# EAGLE library part FTSH-105-01-L-DV-K-TR (library MDULib)
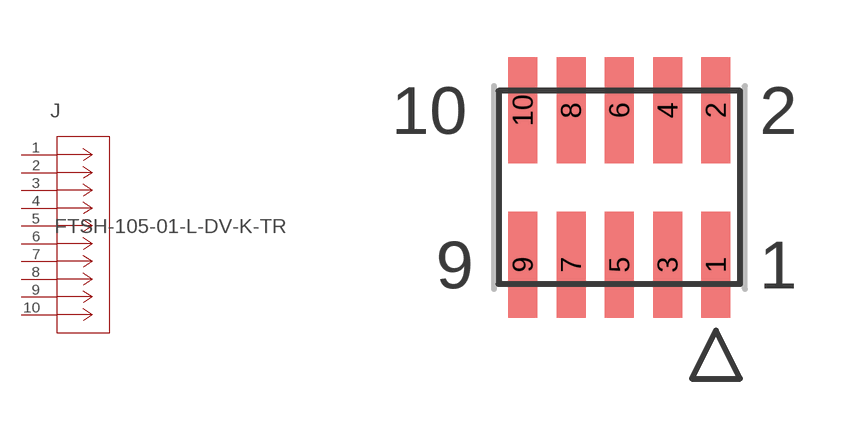
[diagram p0: symbol with the pads of CON10_2X5_DUK_FTSH; footprint CON10_2X5_DUK_FTSH]

Designator prefix J

## FTSH-105-01-L-DV-K-TR (CATEGORY: Connectors; COLOR: Black; CONNECTORTYPE: Header, Unshrouded; CONTACTFINISH: Gold; CONTACTFINISHTHICKNESS: 10µin (0.25µm); CONTACTMATINGLENGTH: 0.120" (3.05mm); CONTACTTYPE: Male Pin; COPYRIGHT: Copyright (C) 2015 Accelerated Designs. All rights reserved; DATASHEET: http://www.samtec.com/documents/webfiles/pdf/FTSH_SMT.pdf; DIGIKEYPARTNUMBER: FTSH-105-01-L-DV-K-TR-ND; FASTENINGTYPE: -; FEATURES: -; MANUFACTURER_PART_NUMBER: FTSH-105-01-L-DV-K-TR; MOUNTINGTYPE: Surface Mount; NUMBEROFPOSITIONS: 10; NUMBEROFPOSITIONSLOADED: All; NUMBEROFROWS: 2; PACKAGING: Tape &amp Reel (TR); PITCH: 0.050" (1.27mm); QUANTITY_AVAILABLE: 0; ROWSPACING: 0.050" (1.27mm); TERMINATION: Solder; VENDOR: Samtec Inc)  [CON10_2X5_DUK_FTSH]
1  1  pas
2  2  pas
3  3  pas
4  4  pas
5  5  pas
6  6  pas
7  7  pas
8  8  pas
9  9  pas
10  10  pas

## Footprint CON10_2X5_DUK_FTSH (pad centres in mm)
smd 0.762 x 2.794: 1 2.54,-2.032; 2 2.54,2.032; 3 1.27,-2.032; 4 1.27,2.032; 5 0,-2.032; 6 0,2.032; 7 -1.27,-2.032; 8 -1.27,2.032; 9 -2.54,-2.032; 10 -2.54,2.032